# EAGLE library part ADS1015 (library DSDEagleLibrary)
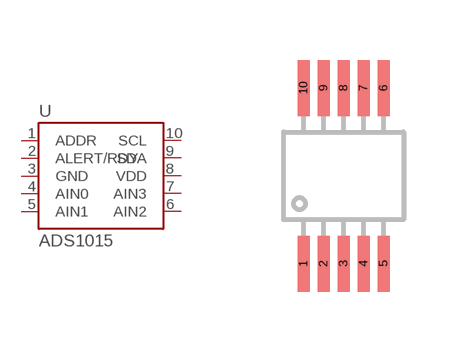
[diagram p27: symbol with the pads of ADS1015; footprint ADS1015]

Designator prefix U

## ADS1015  [ADS1015]
1  ADDR
2  ALERT/RDY
3  GND
4  AIN0
5  AIN1
6  AIN2
7  AIN3
8  VDD
9  SDA
10  SCL

## Footprint ADS1015 (pad centres in mm)
smd 0.3 x 1.4: 1 0,0; 2 0.5,0; 3 1,0; 4 1.5,0; 5 2,0; 6 2,4.4; 7 1.5,4.4; 8 1,4.4; 9 0.5,4.4; 10 0,4.4